# EAGLE library part TEENSY-OR-++ (library CMU-ArtFab)
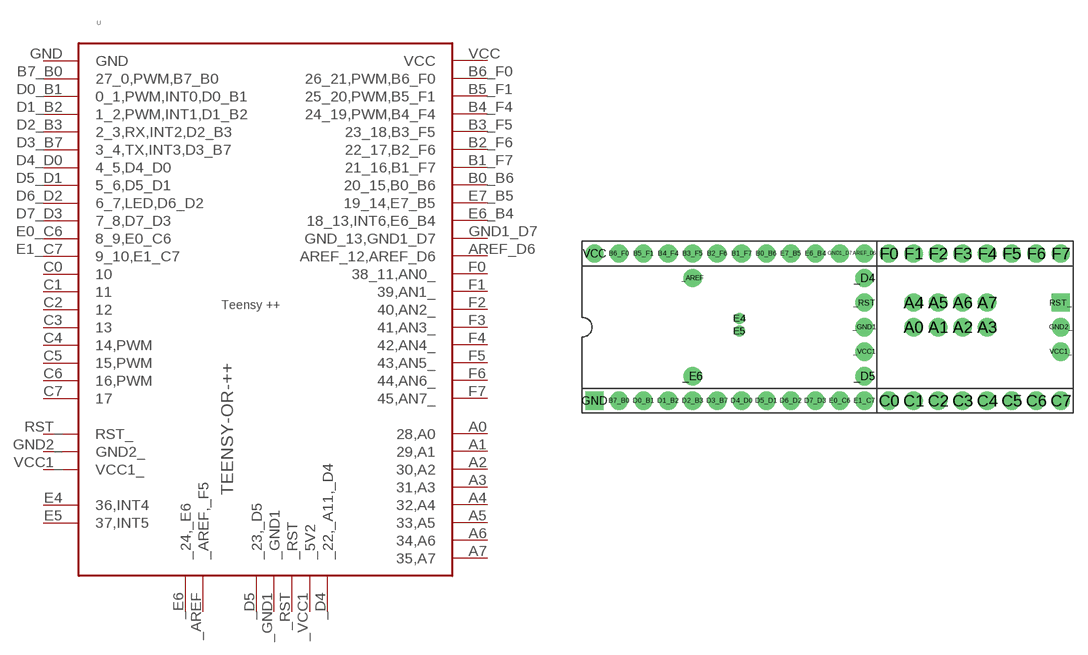
[diagram p13: symbol with the pads of TEENSY-OR-++; footprint TEENSY-OR-++]

Designator prefix -

## TEENSY-OR-++  [TEENSY-OR-++]
_AREF  _AREF,_F5
_D4  _22,_A11,_D4
_D5  _23,_D5
_E6  _24,_E6
_GND1  _GND1
_RST  _RST
_VCC1  _5V2
A0  28,A0
A1  29,A1
A2  30,A2
A3  31,A3
A4  32,A4
A5  33,A5
A6  34,A6
A7  35,A7
AREF_D6  AREF_12,AREF_D6  in
B0_B6  20_15,B0_B6
B1_F7  21_16,B1_F7
B2_F6  22_17,B2_F6
B3_F5  23_18,B3_F5
B4_F4  24_19,PWM,B4_F4
B5_F1  25_20,PWM,B5_F1
B6_F0  26_21,PWM,B6_F0
B7_B0  27_0,PWM,B7_B0
C0  10
C1  11
C2  12
C3  13
C4  14,PWM
C5  15,PWM
C6  16,PWM
C7  17
D0_B1  0_1,PWM,INT0,D0_B1
D1_B2  1_2,PWM,INT1,D1_B2
D2_B3  2_3,RX,INT2,D2_B3
D3_B7  3_4,TX,INT3,D3_B7
D4_D0  4_5,D4_D0
D5_D1  5_6,D5_D1
D6_D2  6_7,LED,D6_D2
D7_D3  7_8,D7_D3
E0_C6  8_9,E0_C6
E1_C7  9_10,E1_C7
E4  36,INT4
E5  37,INT5
E6_B4  18_13,INT6,E6_B4
E7_B5  19_14,E7_B5
F0  38_11,AN0_
F1  39,AN1_
F2  40,AN2_
F3  41,AN3_
F4  42,AN4_
F5  43,AN5_
F6  44,AN6_
F7  45,AN7_
GND  GND  pwr
GND1_D7  GND_13,GND1_D7  pwr
GND2_  GND2_  pwr
RST_  RST_  in
VCC  VCC  pwr
VCC1_  VCC1_  pwr

## Footprint TEENSY-OR-++ (pad centres in mm)
drill 1.016 pad 1.88: _AREF -12.7,5.08; _D4 5.08,5.08; _D5 5.08,-5.08; _E6 -12.7,-5.08; _GND1 5.08,0; _RST 5.08,2.54; _VCC1 5.08,-2.54; A0 10.16,0; A1 12.7,0; A2 15.24,0; A3 17.78,0; A4 10.16,2.54; A5 12.7,2.54; A6 15.24,2.54; A7 17.78,2.54; AREF_D6 5.08,7.62; B0_B6 -5.08,7.62; B1_F7 -7.62,7.62; B2_F6 -10.16,7.62; B3_F5 -12.7,7.62; B4_F4 -15.24,7.62; B5_F1 -17.78,7.62; B6_F0 -20.32,7.62; B7_B0 -20.32,-7.62; C0 7.62,-7.62; C1 10.16,-7.62; C2 12.7,-7.62; C3 15.24,-7.62; C4 17.78,-7.62; C5 20.32,-7.62; C6 22.86,-7.62; C7 25.4,-7.62; D0_B1 -17.78,-7.62; D1_B2 -15.24,-7.62; D2_B3 -12.7,-7.62; D3_B7 -10.16,-7.62; D4_D0 -7.62,-7.62; D5_D1 -5.08,-7.62; D6_D2 -2.54,-7.62; D7_D3 0,-7.62; E0_C6 2.54,-7.62; E1_C7 5.08,-7.62; E6_B4 0,7.62; E7_B5 -2.54,7.62; F0 7.62,7.62; F1 10.16,7.62; F2 12.7,7.62; F3 15.24,7.62; F4 17.78,7.62; F5 20.32,7.62; F6 22.86,7.62; F7 25.4,7.62; GND1_D7 2.54,7.62; GND2_ 25.4,0; VCC -22.86,7.62; VCC1_ 25.4,-2.54
drill 0.635 pad 1.067: E4 -7.874,0.914; E5 -7.874,-0.406
drill 1.016 pad 1.88 square: GND -22.86,-7.62; RST_ 25.4,2.54